# EAGLE library part RS485_CHINESE (library RS485_MOD)
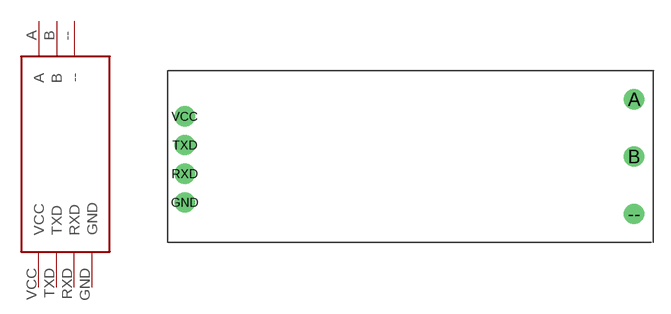
[diagram p0: symbol with the pads of RS485_CHINESE; footprint RS485_CHINESE]

Designator prefix -

## RS485_CHINESE  [RS485_CHINESE]
--  --
A  A
B  B
GND  GND
RXD  RXD
TXD  TXD
VCC  VCC

## Footprint RS485_CHINESE (pad centres in mm)
drill 0.8 pad 1.8: -- 41.3,2.54; A 41.3,12.7; B 41.3,7.62; GND 1.5,3.56; RXD 1.5,6.1; TXD 1.5,8.64; VCC 1.5,11.18